# Altium integrated library Vishay Roederstein Electrolytic Solder Ring Capacitor.IntLib: 99 symbols (part 2 of 2)
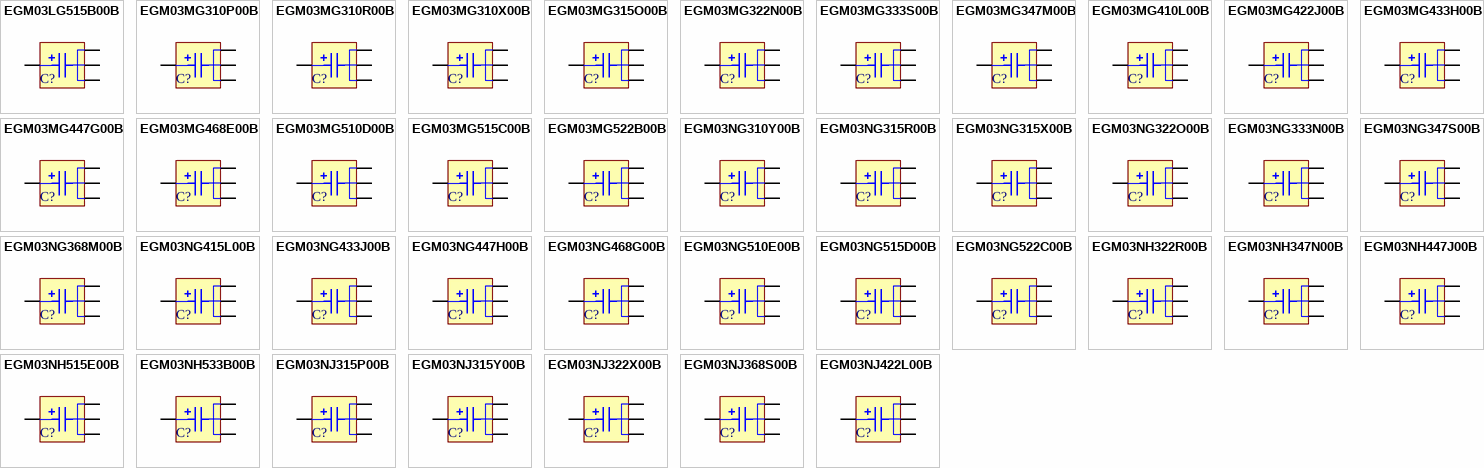
[diagram p3: symbols EGM03LG515B00B to EGM03NJ422L00B]

## EGM03NH322R00B
designator C?
Aluminum Electrolytic Capacitor, Solder Ring Termination : 220uF, 385V; PCB_Layout: Complies with Manufacturer's Recommendation.; DrillSize: Nominal, Rounded To The Nearest 0.1mm; Published: 19-Mar-2004; DatasheetDocument: 8-Apr-2002; PackageReference: CAPPRM12.75-25X45-4; Publisher: Altium Limited; ComponentLink1Description: Manufacturer Link; ComponentLink1URL: http://www.vishay.com/; ComponentLink2Description: Datasheet; ComponentLink2URL: http://www.vishay.com/docs/25140/elebegm.pdf
footprint CAPPRM12.75-25X45-4 (Capacitor, Electrolytic, Radial, Solder Ring; Body 25 x 45 mm (Dia.xH typ); Pin Spacing 12.75 mm (typ))
simulation model CAP (Capacitor)
pins: 1, 2, 3, 4

## EGM03NH347N00B
designator C?
Aluminum Electrolytic Capacitor, Solder Ring Termination : 470uF, 250V; PCB_Layout: Complies with Manufacturer's Recommendation.; DrillSize: Nominal, Rounded To The Nearest 0.1mm; Published: 19-Mar-2004; DatasheetDocument: 8-Apr-2002; PackageReference: CAPPRM12.75-25X45-4; Publisher: Altium Limited; ComponentLink1Description: Manufacturer Link; ComponentLink1URL: http://www.vishay.com/; ComponentLink2Description: Datasheet; ComponentLink2URL: http://www.vishay.com/docs/25140/elebegm.pdf
footprint CAPPRM12.75-25X45-4 (Capacitor, Electrolytic, Radial, Solder Ring; Body 25 x 45 mm (Dia.xH typ); Pin Spacing 12.75 mm (typ))
simulation model CAP (Capacitor)
pins: 1, 2, 3, 4

## EGM03NH447J00B
designator C?
Aluminum Electrolytic Capacitor, Solder Ring Termination : 4700uF, 63V; PCB_Layout: Complies with Manufacturer's Recommendation.; DrillSize: Nominal, Rounded To The Nearest 0.1mm; Published: 19-Mar-2004; DatasheetDocument: 8-Apr-2002; PackageReference: CAPPRM12.75-25X45-4; Publisher: Altium Limited; ComponentLink1Description: Manufacturer Link; ComponentLink1URL: http://www.vishay.com/; ComponentLink2Description: Datasheet; ComponentLink2URL: http://www.vishay.com/docs/25140/elebegm.pdf
footprint CAPPRM12.75-25X45-4 (Capacitor, Electrolytic, Radial, Solder Ring; Body 25 x 45 mm (Dia.xH typ); Pin Spacing 12.75 mm (typ))
simulation model CAP (Capacitor)
pins: 1, 2, 3, 4

## EGM03NH515E00B
designator C?
Aluminum Electrolytic Capacitor, Solder Ring Termination : 15000uF, 25V; PCB_Layout: Complies with Manufacturer's Recommendation.; DrillSize: Nominal, Rounded To The Nearest 0.1mm; Published: 19-Mar-2004; DatasheetDocument: 8-Apr-2002; PackageReference: CAPPRM12.75-25X45-4; Publisher: Altium Limited; ComponentLink1Description: Manufacturer Link; ComponentLink1URL: http://www.vishay.com/; ComponentLink2Description: Datasheet; ComponentLink2URL: http://www.vishay.com/docs/25140/elebegm.pdf
footprint CAPPRM12.75-25X45-4 (Capacitor, Electrolytic, Radial, Solder Ring; Body 25 x 45 mm (Dia.xH typ); Pin Spacing 12.75 mm (typ))
simulation model CAP (Capacitor)
pins: 1, 2, 3, 4

## EGM03NH533B00B
designator C?
Aluminum Electrolytic Capacitor, Solder Ring Termination : 33000uF, 6.3V; PCB_Layout: Complies with Manufacturer's Recommendation.; DrillSize: Nominal, Rounded To The Nearest 0.1mm; Published: 19-Mar-2004; DatasheetDocument: 8-Apr-2002; PackageReference: CAPPRM12.75-25X45-4; Publisher: Altium Limited; ComponentLink1Description: Manufacturer Link; ComponentLink1URL: http://www.vishay.com/; ComponentLink2Description: Datasheet; ComponentLink2URL: http://www.vishay.com/docs/25140/elebegm.pdf
footprint CAPPRM12.75-25X45-4 (Capacitor, Electrolytic, Radial, Solder Ring; Body 25 x 45 mm (Dia.xH typ); Pin Spacing 12.75 mm (typ))
simulation model CAP (Capacitor)
pins: 1, 2, 3, 4

## EGM03NJ315P00B
designator C?
Aluminum Electrolytic Capacitor, Solder Ring Termination : 150uF, 450V; PCB_Layout: Complies with Manufacturer's Recommendation.; DrillSize: Nominal, Rounded To The Nearest 0.1mm; Published: 19-Mar-2004; DatasheetDocument: 8-Apr-2002; PackageReference: CAPPRM12.75-25X50-4; Publisher: Altium Limited; ComponentLink1Description: Manufacturer Link; ComponentLink1URL: http://www.vishay.com/; ComponentLink2Description: Datasheet; ComponentLink2URL: http://www.vishay.com/docs/25140/elebegm.pdf
footprint CAPPRM12.75-25X50-4 (Capacitor, Electrolytic, Radial, Solder Ring; Body 25 x 50 mm (Dia.xH typ); Pin Spacing 12.75 mm (typ))
simulation model CAP (Capacitor)
pins: 1, 2, 3, 4

## EGM03NJ315Y00B
designator C?
Aluminum Electrolytic Capacitor, Solder Ring Termination : 150uF, 500V; PCB_Layout: Complies with Manufacturer's Recommendation.; DrillSize: Nominal, Rounded To The Nearest 0.1mm; Published: 19-Mar-2004; DatasheetDocument: 8-Apr-2002; PackageReference: CAPPRM12.75-25X50-4; Publisher: Altium Limited; ComponentLink1Description: Manufacturer Link; ComponentLink1URL: http://www.vishay.com/; ComponentLink2Description: Datasheet; ComponentLink2URL: http://www.vishay.com/docs/25140/elebegm.pdf
footprint CAPPRM12.75-25X50-4 (Capacitor, Electrolytic, Radial, Solder Ring; Body 25 x 50 mm (Dia.xH typ); Pin Spacing 12.75 mm (typ))
simulation model CAP (Capacitor)
pins: 1, 2, 3, 4

## EGM03NJ322X00B
designator C?
Aluminum Electrolytic Capacitor, Solder Ring Termination : 220uF, 400V; PCB_Layout: Complies with Manufacturer's Recommendation.; DrillSize: Nominal, Rounded To The Nearest 0.1mm; Published: 19-Mar-2004; DatasheetDocument: 8-Apr-2002; PackageReference: CAPPRM12.75-25X50-4; Publisher: Altium Limited; ComponentLink1Description: Manufacturer Link; ComponentLink1URL: http://www.vishay.com/; ComponentLink2Description: Datasheet; ComponentLink2URL: http://www.vishay.com/docs/25140/elebegm.pdf
footprint CAPPRM12.75-25X50-4 (Capacitor, Electrolytic, Radial, Solder Ring; Body 25 x 50 mm (Dia.xH typ); Pin Spacing 12.75 mm (typ))
simulation model CAP (Capacitor)
pins: 1, 2, 3, 4

## EGM03NJ368S00B
designator C?
Aluminum Electrolytic Capacitor, Solder Ring Termination : 680uF, 200V; PCB_Layout: Complies with Manufacturer's Recommendation.; DrillSize: Nominal, Rounded To The Nearest 0.1mm; Published: 19-Mar-2004; DatasheetDocument: 8-Apr-2002; PackageReference: CAPPRM12.75-25X50-4; Publisher: Altium Limited; ComponentLink1Description: Manufacturer Link; ComponentLink1URL: http://www.vishay.com/; ComponentLink2Description: Datasheet; ComponentLink2URL: http://www.vishay.com/docs/25140/elebegm.pdf
footprint CAPPRM12.75-25X50-4 (Capacitor, Electrolytic, Radial, Solder Ring; Body 25 x 50 mm (Dia.xH typ); Pin Spacing 12.75 mm (typ))
simulation model CAP (Capacitor)
pins: 1, 2, 3, 4

## EGM03NJ422L00B
designator C?
Aluminum Electrolytic Capacitor, Solder Ring Termination : 2200uF, 100V; PCB_Layout: Complies with Manufacturer's Recommendation.; DrillSize: Nominal, Rounded To The Nearest 0.1mm; Published: 19-Mar-2004; DatasheetDocument: 8-Apr-2002; PackageReference: CAPPRM12.75-25X50-4; Publisher: Altium Limited; ComponentLink1Description: Manufacturer Link; ComponentLink1URL: http://www.vishay.com/; ComponentLink2Description: Datasheet; ComponentLink2URL: http://www.vishay.com/docs/25140/elebegm.pdf
footprint CAPPRM12.75-25X50-4 (Capacitor, Electrolytic, Radial, Solder Ring; Body 25 x 50 mm (Dia.xH typ); Pin Spacing 12.75 mm (typ))
simulation model CAP (Capacitor)
pins: 1, 2, 3, 4

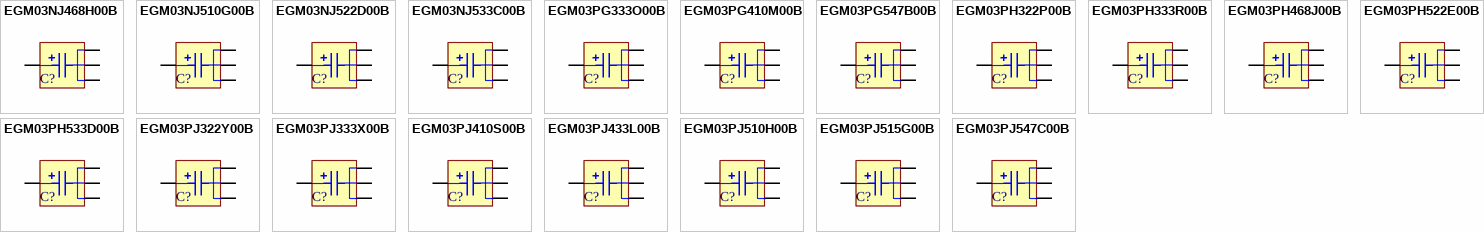
[diagram p2: symbols EGM03NJ468H00B to EGM03PJ547C00B]

## EGM03NJ468H00B
designator C?
Aluminum Electrolytic Capacitor, Solder Ring Termination : 6800uF, 50V; PCB_Layout: Complies with Manufacturer's Recommendation.; DrillSize: Nominal, Rounded To The Nearest 0.1mm; Published: 19-Mar-2004; DatasheetDocument: 8-Apr-2002; PackageReference: CAPPRM12.75-25X50-4; Publisher: Altium Limited; ComponentLink1Description: Manufacturer Link; ComponentLink1URL: http://www.vishay.com/; ComponentLink2Description: Datasheet; ComponentLink2URL: http://www.vishay.com/docs/25140/elebegm.pdf
footprint CAPPRM12.75-25X50-4 (Capacitor, Electrolytic, Radial, Solder Ring; Body 25 x 50 mm (Dia.xH typ); Pin Spacing 12.75 mm (typ))
simulation model CAP (Capacitor)
pins: 1, 2, 3, 4

## EGM03NJ510G00B
designator C?
Aluminum Electrolytic Capacitor, Solder Ring Termination : 10000uF, 40V; PCB_Layout: Complies with Manufacturer's Recommendation.; DrillSize: Nominal, Rounded To The Nearest 0.1mm; Published: 19-Mar-2004; DatasheetDocument: 8-Apr-2002; PackageReference: CAPPRM12.75-25X50-4; Publisher: Altium Limited; ComponentLink1Description: Manufacturer Link; ComponentLink1URL: http://www.vishay.com/; ComponentLink2Description: Datasheet; ComponentLink2URL: http://www.vishay.com/docs/25140/elebegm.pdf
footprint CAPPRM12.75-25X50-4 (Capacitor, Electrolytic, Radial, Solder Ring; Body 25 x 50 mm (Dia.xH typ); Pin Spacing 12.75 mm (typ))
simulation model CAP (Capacitor)
pins: 1, 2, 3, 4

## EGM03NJ522D00B
designator C?
Aluminum Electrolytic Capacitor, Solder Ring Termination : 22000uF, 16V; PCB_Layout: Complies with Manufacturer's Recommendation.; DrillSize: Nominal, Rounded To The Nearest 0.1mm; Published: 19-Mar-2004; DatasheetDocument: 8-Apr-2002; PackageReference: CAPPRM12.75-25X50-4; Publisher: Altium Limited; ComponentLink1Description: Manufacturer Link; ComponentLink1URL: http://www.vishay.com/; ComponentLink2Description: Datasheet; ComponentLink2URL: http://www.vishay.com/docs/25140/elebegm.pdf
footprint CAPPRM12.75-25X50-4 (Capacitor, Electrolytic, Radial, Solder Ring; Body 25 x 50 mm (Dia.xH typ); Pin Spacing 12.75 mm (typ))
simulation model CAP (Capacitor)
pins: 1, 2, 3, 4

## EGM03NJ533C00B
designator C?
Aluminum Electrolytic Capacitor, Solder Ring Termination : 33000uF, 10V; PCB_Layout: Complies with Manufacturer's Recommendation.; DrillSize: Nominal, Rounded To The Nearest 0.1mm; Published: 19-Mar-2004; DatasheetDocument: 8-Apr-2002; PackageReference: CAPPRM12.75-25X50-4; Publisher: Altium Limited; ComponentLink1Description: Manufacturer Link; ComponentLink1URL: http://www.vishay.com/; ComponentLink2Description: Datasheet; ComponentLink2URL: http://www.vishay.com/docs/25140/elebegm.pdf
footprint CAPPRM12.75-25X50-4 (Capacitor, Electrolytic, Radial, Solder Ring; Body 25 x 50 mm (Dia.xH typ); Pin Spacing 12.75 mm (typ))
simulation model CAP (Capacitor)
pins: 1, 2, 3, 4

## EGM03PG333O00B
designator C?
Aluminum Electrolytic Capacitor, Solder Ring Termination : 330uF, 350V; PCB_Layout: Complies with Manufacturer's Recommendation.; DrillSize: Nominal, Rounded To The Nearest 0.1mm; Published: 19-Mar-2004; DatasheetDocument: 8-Apr-2002; PackageReference: CAPPRM15.25-30X40-4; Publisher: Altium Limited; ComponentLink1Description: Manufacturer Link; ComponentLink1URL: http://www.vishay.com/; ComponentLink2Description: Datasheet; ComponentLink2URL: http://www.vishay.com/docs/25140/elebegm.pdf
footprint CAPPRM15.25-30X40-4 (Capacitor, Electrolytic, Radial, Solder Ring; Body 30 x 40 mm (Dia.xH typ); Pin Spacing 15.25 mm (typ))
simulation model CAP (Capacitor)
pins: 1, 2, 3, 4

## EGM03PG410M00B
designator C?
Aluminum Electrolytic Capacitor, Solder Ring Termination : 1000uF, 160V; PCB_Layout: Complies with Manufacturer's Recommendation.; DrillSize: Nominal, Rounded To The Nearest 0.1mm; Published: 19-Mar-2004; DatasheetDocument: 8-Apr-2002; PackageReference: CAPPRM15.25-30X40-4; Publisher: Altium Limited; ComponentLink1Description: Manufacturer Link; ComponentLink1URL: http://www.vishay.com/; ComponentLink2Description: Datasheet; ComponentLink2URL: http://www.vishay.com/docs/25140/elebegm.pdf
footprint CAPPRM15.25-30X40-4 (Capacitor, Electrolytic, Radial, Solder Ring; Body 30 x 40 mm (Dia.xH typ); Pin Spacing 15.25 mm (typ))
simulation model CAP (Capacitor)
pins: 1, 2, 3, 4

## EGM03PG547B00B
designator C?
Aluminum Electrolytic Capacitor, Solder Ring Termination : 47000uF, 6.3V; PCB_Layout: Complies with Manufacturer's Recommendation.; DrillSize: Nominal, Rounded To The Nearest 0.1mm; Published: 19-Mar-2004; DatasheetDocument: 8-Apr-2002; PackageReference: CAPPRM15.25-30X40-4; Publisher: Altium Limited; ComponentLink1Description: Manufacturer Link; ComponentLink1URL: http://www.vishay.com/; ComponentLink2Description: Datasheet; ComponentLink2URL: http://www.vishay.com/docs/25140/elebegm.pdf
footprint CAPPRM15.25-30X40-4 (Capacitor, Electrolytic, Radial, Solder Ring; Body 30 x 40 mm (Dia.xH typ); Pin Spacing 15.25 mm (typ))
simulation model CAP (Capacitor)
pins: 1, 2, 3, 4

## EGM03PH322P00B
designator C?
Aluminum Electrolytic Capacitor, Solder Ring Termination : 220uF, 450V; PCB_Layout: Complies with Manufacturer's Recommendation.; DrillSize: Nominal, Rounded To The Nearest 0.1mm; Published: 19-Mar-2004; DatasheetDocument: 8-Apr-2002; PackageReference: CAPPRM15.25-30X45-4; Publisher: Altium Limited; ComponentLink1Description: Manufacturer Link; ComponentLink1URL: http://www.vishay.com/; ComponentLink2Description: Datasheet; ComponentLink2URL: http://www.vishay.com/docs/25140/elebegm.pdf
footprint CAPPRM15.25-30X45-4 (Capacitor, Electrolytic, Radial, Solder Ring; Body 30 x 45 mm (Dia.xH typ); Pin Spacing 15.25 mm (typ))
simulation model CAP (Capacitor)
pins: 1, 2, 3, 4

## EGM03PH333R00B
designator C?
Aluminum Electrolytic Capacitor, Solder Ring Termination : 330uF, 385V; PCB_Layout: Complies with Manufacturer's Recommendation.; DrillSize: Nominal, Rounded To The Nearest 0.1mm; Published: 19-Mar-2004; DatasheetDocument: 8-Apr-2002; PackageReference: CAPPRM15.25-30X45-4; Publisher: Altium Limited; ComponentLink1Description: Manufacturer Link; ComponentLink1URL: http://www.vishay.com/; ComponentLink2Description: Datasheet; ComponentLink2URL: http://www.vishay.com/docs/25140/elebegm.pdf
footprint CAPPRM15.25-30X45-4 (Capacitor, Electrolytic, Radial, Solder Ring; Body 30 x 45 mm (Dia.xH typ); Pin Spacing 15.25 mm (typ))
simulation model CAP (Capacitor)
pins: 1, 2, 3, 4

## EGM03PH468J00B
designator C?
Aluminum Electrolytic Capacitor, Solder Ring Termination : 6800uF, 63V; PCB_Layout: Complies with Manufacturer's Recommendation.; DrillSize: Nominal, Rounded To The Nearest 0.1mm; Published: 19-Mar-2004; DatasheetDocument: 8-Apr-2002; PackageReference: CAPPRM15.25-30X45-4; Publisher: Altium Limited; ComponentLink1Description: Manufacturer Link; ComponentLink1URL: http://www.vishay.com/; ComponentLink2Description: Datasheet; ComponentLink2URL: http://www.vishay.com/docs/25140/elebegm.pdf
footprint CAPPRM15.25-30X45-4 (Capacitor, Electrolytic, Radial, Solder Ring; Body 30 x 45 mm (Dia.xH typ); Pin Spacing 15.25 mm (typ))
simulation model CAP (Capacitor)
pins: 1, 2, 3, 4

## EGM03PH522E00B
designator C?
Aluminum Electrolytic Capacitor, Solder Ring Termination : 22000uF, 25V; PCB_Layout: Complies with Manufacturer's Recommendation.; DrillSize: Nominal, Rounded To The Nearest 0.1mm; Published: 19-Mar-2004; DatasheetDocument: 8-Apr-2002; PackageReference: CAPPRM15.25-30X45-4; Publisher: Altium Limited; ComponentLink1Description: Manufacturer Link; ComponentLink1URL: http://www.vishay.com/; ComponentLink2Description: Datasheet; ComponentLink2URL: http://www.vishay.com/docs/25140/elebegm.pdf
footprint CAPPRM15.25-30X45-4 (Capacitor, Electrolytic, Radial, Solder Ring; Body 30 x 45 mm (Dia.xH typ); Pin Spacing 15.25 mm (typ))
simulation model CAP (Capacitor)
pins: 1, 2, 3, 4

## EGM03PH533D00B
designator C?
Aluminum Electrolytic Capacitor, Solder Ring Termination : 33000uF, 16V; PCB_Layout: Complies with Manufacturer's Recommendation.; DrillSize: Nominal, Rounded To The Nearest 0.1mm; Published: 19-Mar-2004; DatasheetDocument: 8-Apr-2002; PackageReference: CAPPRM15.25-30X45-4; Publisher: Altium Limited; ComponentLink1Description: Manufacturer Link; ComponentLink1URL: http://www.vishay.com/; ComponentLink2Description: Datasheet; ComponentLink2URL: http://www.vishay.com/docs/25140/elebegm.pdf
footprint CAPPRM15.25-30X45-4 (Capacitor, Electrolytic, Radial, Solder Ring; Body 30 x 45 mm (Dia.xH typ); Pin Spacing 15.25 mm (typ))
simulation model CAP (Capacitor)
pins: 1, 2, 3, 4

## EGM03PJ322Y00B
designator C?
Aluminum Electrolytic Capacitor, Solder Ring Termination : 220uF, 500V; PCB_Layout: Complies with Manufacturer's Recommendation.; DrillSize: Nominal, Rounded To The Nearest 0.1mm; Published: 19-Mar-2004; DatasheetDocument: 8-Apr-2002; PackageReference: CAPPRM15.25-30X50-4; Publisher: Altium Limited; ComponentLink1Description: Manufacturer Link; ComponentLink1URL: http://www.vishay.com/; ComponentLink2Description: Datasheet; ComponentLink2URL: http://www.vishay.com/docs/25140/elebegm.pdf
footprint CAPPRM15.25-30X50-4 (Capacitor, Electrolytic, Radial, Solder Ring; Body 30 x 50 mm (Dia.xH typ); Pin Spacing 15.25 mm (typ))
simulation model CAP (Capacitor)
pins: 1, 2, 3, 4

## EGM03PJ333X00B
designator C?
Aluminum Electrolytic Capacitor, Solder Ring Termination : 330uF, 400V; PCB_Layout: Complies with Manufacturer's Recommendation.; DrillSize: Nominal, Rounded To The Nearest 0.1mm; Published: 19-Mar-2004; DatasheetDocument: 8-Apr-2002; PackageReference: CAPPRM15.25-30X50-4; Publisher: Altium Limited; ComponentLink1Description: Manufacturer Link; ComponentLink1URL: http://www.vishay.com/; ComponentLink2Description: Datasheet; ComponentLink2URL: http://www.vishay.com/docs/25140/elebegm.pdf
footprint CAPPRM15.25-30X50-4 (Capacitor, Electrolytic, Radial, Solder Ring; Body 30 x 50 mm (Dia.xH typ); Pin Spacing 15.25 mm (typ))
simulation model CAP (Capacitor)
pins: 1, 2, 3, 4

## EGM03PJ410S00B
designator C?
Aluminum Electrolytic Capacitor, Solder Ring Termination : 1000uF, 200V; PCB_Layout: Complies with Manufacturer's Recommendation.; DrillSize: Nominal, Rounded To The Nearest 0.1mm; Published: 19-Mar-2004; DatasheetDocument: 8-Apr-2002; PackageReference: CAPPRM15.25-30X50-4; Publisher: Altium Limited; ComponentLink1Description: Manufacturer Link; ComponentLink1URL: http://www.vishay.com/; ComponentLink2Description: Datasheet; ComponentLink2URL: http://www.vishay.com/docs/25140/elebegm.pdf
footprint CAPPRM15.25-30X50-4 (Capacitor, Electrolytic, Radial, Solder Ring; Body 30 x 50 mm (Dia.xH typ); Pin Spacing 15.25 mm (typ))
simulation model CAP (Capacitor)
pins: 1, 2, 3, 4

## EGM03PJ433L00B
designator C?
Aluminum Electrolytic Capacitor, Solder Ring Termination : 3300uF, 100V; PCB_Layout: Complies with Manufacturer's Recommendation.; DrillSize: Nominal, Rounded To The Nearest 0.1mm; Published: 19-Mar-2004; DatasheetDocument: 8-Apr-2002; PackageReference: CAPPRM15.25-30X50-4; Publisher: Altium Limited; ComponentLink1Description: Manufacturer Link; ComponentLink1URL: http://www.vishay.com/; ComponentLink2Description: Datasheet; ComponentLink2URL: http://www.vishay.com/docs/25140/elebegm.pdf
footprint CAPPRM15.25-30X50-4 (Capacitor, Electrolytic, Radial, Solder Ring; Body 30 x 50 mm (Dia.xH typ); Pin Spacing 15.25 mm (typ))
simulation model CAP (Capacitor)
pins: 1, 2, 3, 4

## EGM03PJ510H00B
designator C?
Aluminum Electrolytic Capacitor, Solder Ring Termination : 10000uF, 50V; PCB_Layout: Complies with Manufacturer's Recommendation.; DrillSize: Nominal, Rounded To The Nearest 0.1mm; Published: 19-Mar-2004; DatasheetDocument: 8-Apr-2002; PackageReference: CAPPRM15.25-30X50-4; Publisher: Altium Limited; ComponentLink1Description: Manufacturer Link; ComponentLink1URL: http://www.vishay.com/; ComponentLink2Description: Datasheet; ComponentLink2URL: http://www.vishay.com/docs/25140/elebegm.pdf
footprint CAPPRM15.25-30X50-4 (Capacitor, Electrolytic, Radial, Solder Ring; Body 30 x 50 mm (Dia.xH typ); Pin Spacing 15.25 mm (typ))
simulation model CAP (Capacitor)
pins: 1, 2, 3, 4

## EGM03PJ515G00B
designator C?
Aluminum Electrolytic Capacitor, Solder Ring Termination : 15000uF, 40V; PCB_Layout: Complies with Manufacturer's Recommendation.; DrillSize: Nominal, Rounded To The Nearest 0.1mm; Published: 19-Mar-2004; DatasheetDocument: 8-Apr-2002; PackageReference: CAPPRM15.25-30X50-4; Publisher: Altium Limited; ComponentLink1Description: Manufacturer Link; ComponentLink1URL: http://www.vishay.com/; ComponentLink2Description: Datasheet; ComponentLink2URL: http://www.vishay.com/docs/25140/elebegm.pdf
footprint CAPPRM15.25-30X50-4 (Capacitor, Electrolytic, Radial, Solder Ring; Body 30 x 50 mm (Dia.xH typ); Pin Spacing 15.25 mm (typ))
simulation model CAP (Capacitor)
pins: 1, 2, 3, 4

## EGM03PJ547C00B
designator C?
Aluminum Electrolytic Capacitor, Solder Ring Termination : 47000uF, 10V; PCB_Layout: Complies with Manufacturer's Recommendation.; DrillSize: Nominal, Rounded To The Nearest 0.1mm; Published: 19-Mar-2004; DatasheetDocument: 8-Apr-2002; PackageReference: CAPPRM15.25-30X50-4; Publisher: Altium Limited; ComponentLink1Description: Manufacturer Link; ComponentLink1URL: http://www.vishay.com/; ComponentLink2Description: Datasheet; ComponentLink2URL: http://www.vishay.com/docs/25140/elebegm.pdf
footprint CAPPRM15.25-30X50-4 (Capacitor, Electrolytic, Radial, Solder Ring; Body 30 x 50 mm (Dia.xH typ); Pin Spacing 15.25 mm (typ))
simulation model CAP (Capacitor)
pins: 1, 2, 3, 4